# Altium footprint library INDPM120120X800N.PcbLib: 1 footprints
Each footprint in its own frame and in the unit in brackets; x right, y up, seen from the top. Pads: shape width x height; smd on the part's side, far side on the other; paste and mask are expansions set on the pad; w line width, h text height; cw(c..) or ccw(c..) is an arc to the next point about the centre after c.
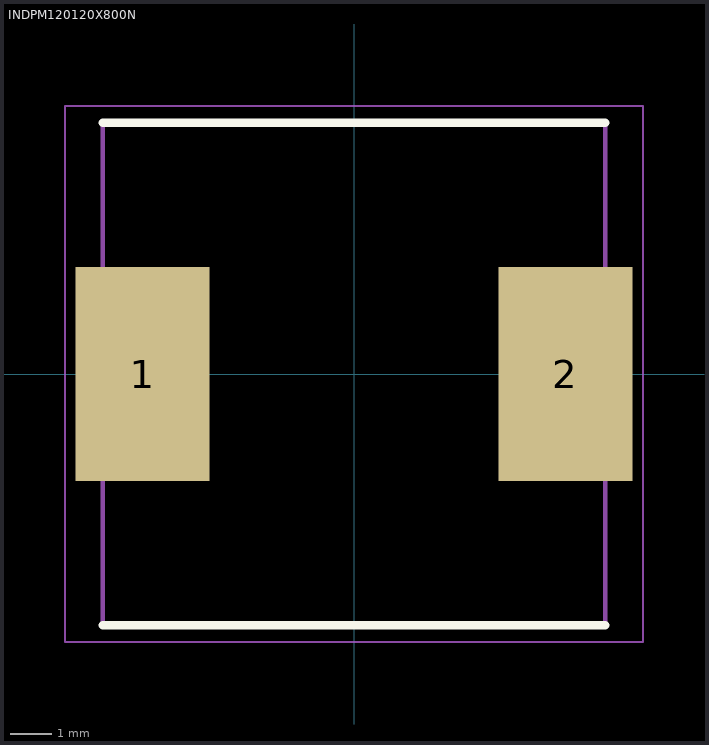
[diagram p0: the footprint, top view; thin cyan lines are the x and y axes]

## INDPM120120X800N [mm]
pads (2):
  rect 3.2x5.1 smd: 1(-5.05,0) 2(5.05,0)
Top Overlay:
  lines w0.2: -6,-6 6,-6 ; -6,6 6,6
Mechanical 15:
  lines w0.1: -6,-6 6,-6 6,6 -6,6 -6,-6
Mechanical 20:
  lines w0.05: -6.9,-6.4 6.9,-6.4 6.9,6.4 -6.9,6.4 -6.9,-6.4
3D body "CDRH127_LDNP-470MC.stp": height 5.8, standoff -4.65, extent -10,-3.376 10,3.376